# EAGLE library part RRH140P03GZETB (library PDUv2)
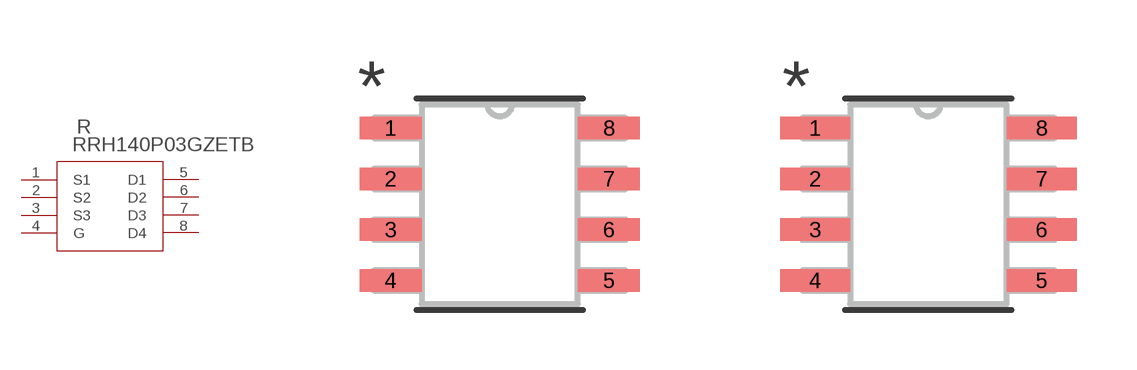
[diagram p10: symbol with the pads of TRANS_RRH040P_ROM; footprints TRANS_RRH040P_ROM, TRANS_RRH040P_ROM-M]

Designator prefix R

## RRH140P03GZETB (BUILT_BY: EMA_Matt; COPYRIGHT: Copyright (C) 2018 Accelerated Designs. All rights reserved; MANUFACTURER_PART_NUMBER: RRH140P03GZETB; SOURCELIBRARY: Rohm_2019-09-23; VENDOR: ROHM Semiconductor)  [TRANS_RRH040P_ROM]
1  S1  pas
2  S2  pas
3  S3  pas
4  G  pas
5  D1  pas
6  D2  pas
7  D3  pas
8  D4  pas

## RRH140P03GZETBTRANS_RRH040P_ROM-M (BUILT_BY: EMA_Matt; COPYRIGHT: Copyright (C) 2018 Accelerated Designs. All rights reserved; MANUFACTURER_PART_NUMBER: RRH140P03GZETB; SOURCELIBRARY: Rohm_2019-09-23; VENDOR: ROHM Semiconductor)  [TRANS_RRH040P_ROM-M]
Pads as for TRANS_RRH040P_ROM

## RRH140P03GZETBTRANS_RRH040P_ROM-L (BUILT_BY: EMA_Matt; COPYRIGHT: Copyright (C) 2018 Accelerated Designs. All rights reserved; MANUFACTURER_PART_NUMBER: RRH140P03GZETB; SOURCELIBRARY: Rohm_2019-09-23; VENDOR: ROHM Semiconductor)  [TRANS_RRH040P_ROM-L]
Pads as for TRANS_RRH040P_ROM

## Footprint TRANS_RRH040P_ROM (pad centres in mm)
smd 1.549 x 0.559: 1 -2.731,1.905; 2 -2.731,0.635; 3 -2.731,-0.635; 4 -2.731,-1.905; 5 2.731,-1.905; 6 2.731,-0.635; 7 2.731,0.635; 8 2.731,1.905

## Footprint TRANS_RRH040P_ROM-M (pad centres in mm)
smd 1.753 x 0.559: 1 -2.832,1.905; 2 -2.832,0.635; 3 -2.832,-0.635; 4 -2.832,-1.905; 5 2.832,-1.905; 6 2.832,-0.635; 7 2.832,0.635; 8 2.832,1.905

## Footprint TRANS_RRH040P_ROM-L (pad centres in mm)
smd 1.245 x 0.508: 1 -2.68,1.905; 2 -2.68,0.635; 3 -2.68,-0.635; 4 -2.68,-1.905; 5 2.68,-1.905; 6 2.68,-0.635; 7 2.68,0.635; 8 2.68,1.905